# Altium footprint library O_JonF_DaveL.PcbLib: 331 footprints (part 16 of 21)
Each footprint in its own frame and in the unit in brackets; x right, y up, seen from the top. Pads: shape width x height; smd on the part's side, far side on the other; paste and mask are expansions set on the pad; w line width, h text height; cw(c..) or ccw(c..) is an arc to the next point about the centre after c.
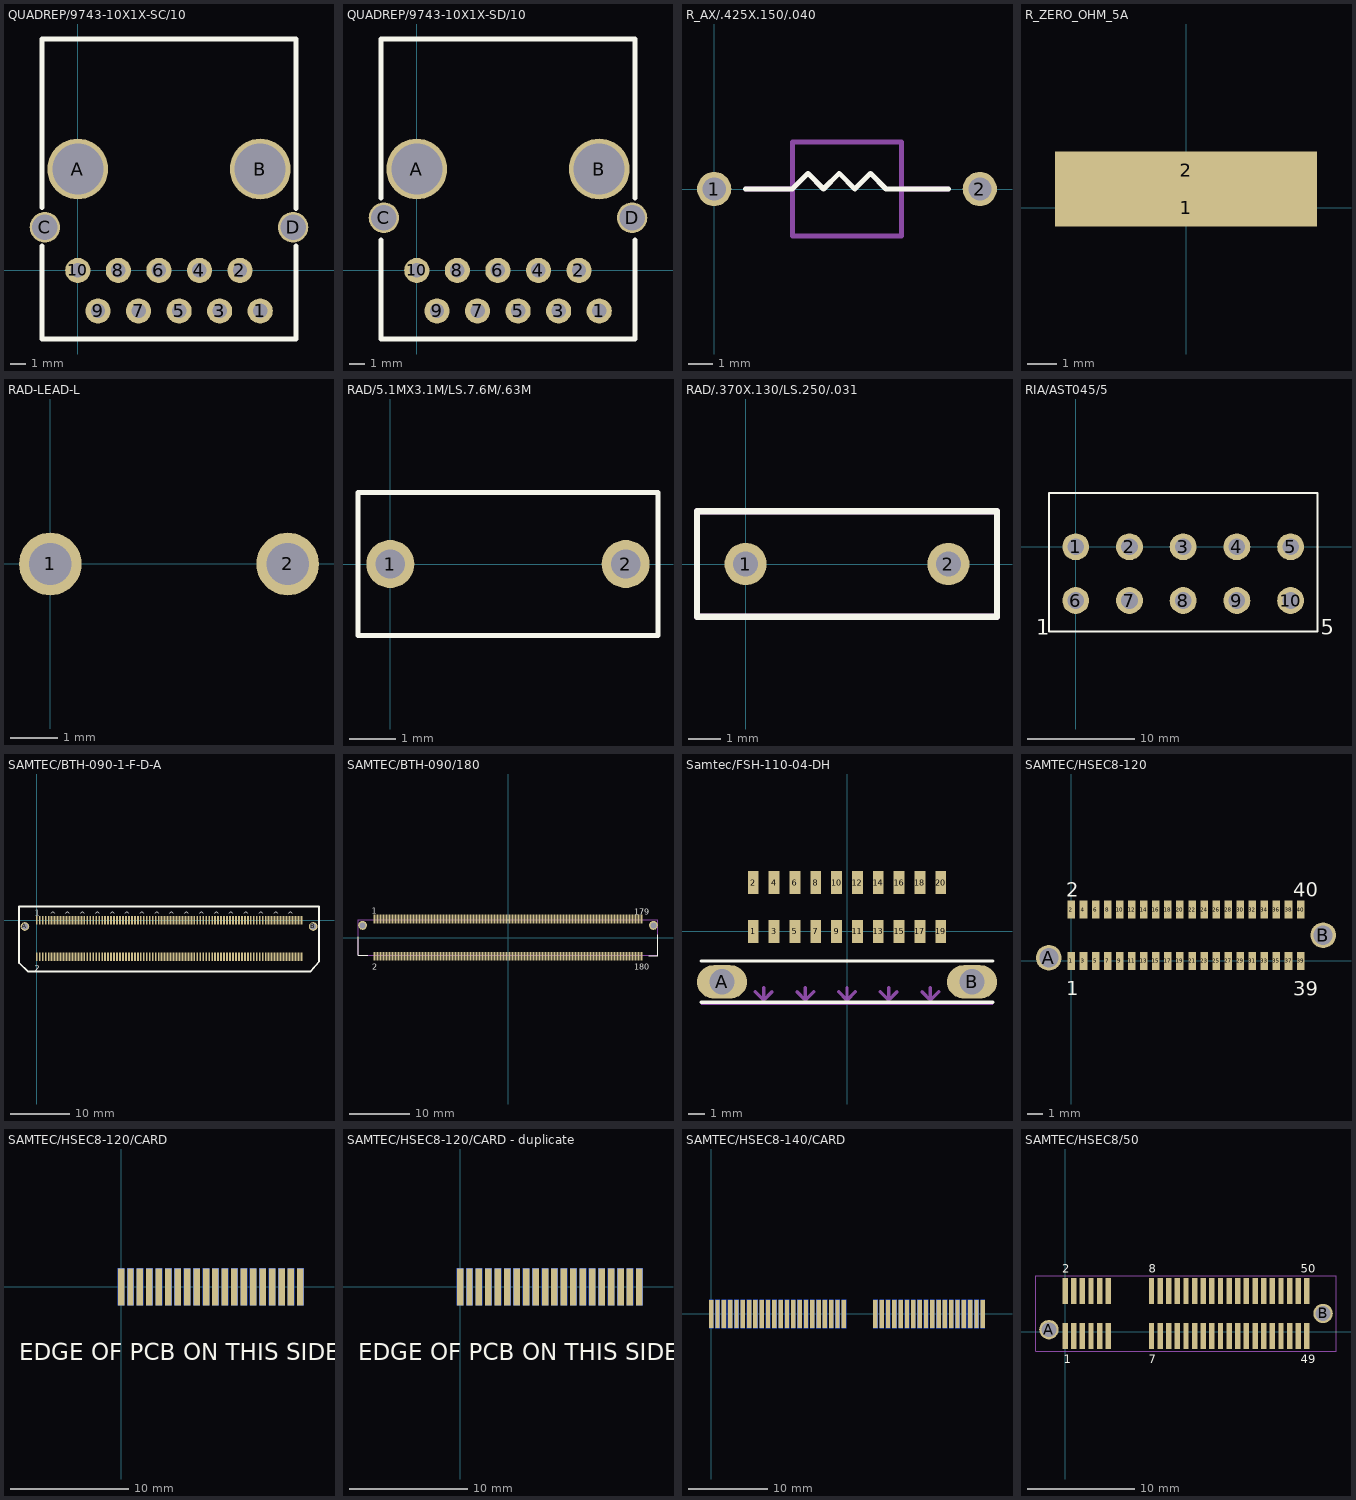
[diagram p15: the footprints below, top view; thin cyan lines are the x and y axes]

## QUADREP/9743-10X1X-SC/10 [mil]
pads (14):
  round 62 hole 35.43: 1(450,-100) 2(400,0) 3(350,-100) 4(300,0) 5(250,-100) 6(200,0) 7(150,-100) 8(100,0) 9(50,-100) 10(0,0)
  round 150 hole 125.98: A(0,250) B(450,250)
  round 75 hole 62.99: C(-81.1,106.3) D(531.1,106.3)
Top Overlay:
  lines w11.81: -88.03,154.84 -88.03,570.87 537.99,570.87 537.99,152.99 ; -87.99,59.84 -87.99,-169.29 537.99,-169.29 537.99,59.84
  text ".Designator" at -83.23,-248.25 h37.5
Mechanical 1:
  text ".Designator" at -81.5,-248.6 h37.5
  text ".Pattern" at -81.5,-440.55 h37.5
  text ".Comment" at -77.91,-314.37 h37.5

## QUADREP/9743-10X1X-SD/10 [mil]
pads (14):
  round 62 hole 35.43: 1(450,-100) 2(400,0) 3(350,-100) 4(300,0) 5(250,-100) 6(200,0) 7(150,-100) 8(100,0) 9(50,-100) 10(0,0)
  round 150 hole 125.98: A(0,250) B(450,250)
  round 75 hole 62.99: C(-81.1,129.92) D(531.1,129.92)
Top Overlay:
  lines w11.81: -87.99,74.92 -87.99,-169.29 537.99,-169.29 537.99,74.96 ; -87.99,178.7 -87.99,570.87 537.99,570.87 537.99,178.43
  text ".Designator" at -83.23,-248.25 h37.5
Mechanical 1:
  text ".Pattern" at -81.5,-440.55 h37.5
  text ".Comment" at -77.91,-314.37 h37.5
  text ".Designator" at -81.5,-248.6 h37.5

## R_AX/.425X.150/.040 [mil]
pads (2):
  round 55 hole 37: 1(0,0) 2(425,0)
Top Overlay:
  lines w8: 50,0 125,0 150,25 175,0 200,25 225,0 250,25 275,0 300,0 375,0
  text ".Designator" at 122.95,91.88 h37.5
Mechanical 1:
  lines w8: 50,0 125,0 ; 125,-75 300,-75 300,75 125,75 125,-73.4 ; 300,0 375,0
  text ".Comment" at 130.17,-68.73 h37.5
  text ".Pattern" at 72.73,-18.38 h22.5
  text ".Designator" at 147.95,16.88 h37.5

## R_ZERO_OHM_5A [mil]
pads (2):
  rect 350x50 smd: 1(0,0) 2(0,50)
Top Overlay:
  text ".Designator" at 0,337.5 h56.25
Mechanical 1:
  text ".Designator" at 0,337.5 h56.25
  text ".Comment" at 0,225 h56.25
  text ".Pattern" at 0,0 h56.25

## RAD-LEAD-L [mm]
pads (2):
  round 1.32 hole 0.889: 1(0,0) 2(5,0)
Top Overlay:
  text ".Designator" at -2,4.3 h1.5
Mechanical 1:
  text ".Pattern" at -4.2,-7.3 h1.5
  text ".Designator" at -2,4.3 h1.5

## RAD/5.1MX3.1M/LS.7.6M/.63M [mil]
pads (2):
  round 41 hole 25: 1(0,0) 2(200.79,0)
Top Overlay:
  lines w3.94: -27.56,-61.02 -27.56,61.02 228.35,61.02 228.35,-61.02 -27.56,-61.02
  text ".Designator" at 0,354.33 h59.06
Mechanical 1:
  text ".Designator" at 0,354.33 h59.06
  text ".Comment" at 0,236.22 h59.06
  text ".Pattern" at 0,0 h59.06

## RAD/.370X.130/LS.250/.031 [mil]
pads (2):
  round 52 hole 31: 1(0,0) 2(250,0)
Top Overlay:
  lines w8: -60,-65 -60,65 310,65 310,-65 -60,-65
  text ".Designator" at -64.05,74.38 h37.5
Mechanical 1:
  lines w8: -60,-65 310,-65 310,65 -60,65 -60,-65
  text ".Pattern" at -58.43,6.62 h37.5
  text ".Comment" at -53.33,-54.73 h37.5
  text ".Designator" at -64.05,74.38 h37.5

## RIA/AST045/5 [mm]
pads (10):
  round 2.5 hole 1.55: 1(0,0) 2(5,0) 3(10,0) 4(15,0) 5(20,0) 6(0,-5) 7(5,-5) 8(10,-5) 9(15,-5) 10(20,-5)
Top Overlay:
  lines w0.2: -2.5,-7.9 -2.5,5 22.5,5 22.5,-7.9 -2.5,-7.9
  text "5" at 22.8,-8.2 h1.43
  text "1" at -3.7,-8.2 h1.43
  text ".Designator" at -5.3,3.1 h1.5
Mechanical 1:
  text "OVERHANG AREA" at 0.6,5.3 h1.43
  text "WIRE INSERTS FROM THIS SIDE" at -9.1,-11 h1.43
  text ".Designator" at -9.6,20.4 h1.5
  text ".Comment" at -9.6,17.4 h1.5
  text ".Pattern" at -9.6,11.4 h1.5

## SAMTEC/BTH-090-1-F-D-A [mm]
pads (182):
  rect 0.305x1.448 smd: 1(0,0) 2(0,-6.172) 3(0.5,0) 4(0.5,-6.172) 5(1,0) 6(1,-6.172) 7(1.5,0) 8(1.5,-6.172) 9(2,0) 10(2,-6.172) 11(2.5,0) 12(2.5,-6.172) 13(3,0) 14(3,-6.172) 15(3.5,0) 16(3.5,-6.172) 17(4,0) 18(4,-6.172) 19(4.5,0) 20(4.5,-6.172) 21(5,0) 22(5,-6.172) 23(5.5,0) 24(5.5,-6.172) 25(6,0) 26(6,-6.172) 27(6.5,0) 28(6.5,-6.172) 29(7,0) 30(7,-6.172) 31(7.5,0) 32(7.5,-6.172) 33(8,0) 34(8,-6.172) 35(8.5,0) 36(8.5,-6.172) 37(9,0) 38(9,-6.172) 39(9.5,0) 40(9.5,-6.172) 41(10,0) 42(10,-6.172) 43(10.5,0) 44(10.5,-6.172) 45(11,0) 46(11,-6.172) 47(11.5,0) 48(11.5,-6.172) 49(12,0) 50(12,-6.172) 51(12.5,0) 52(12.5,-6.172) 53(13,0) 54(13,-6.172) 55(13.5,0) 56(13.5,-6.172) 57(14,0) 58(14,-6.172) 59(14.5,0) 60(14.5,-6.172) 61(15,0) 62(15,-6.172) 63(15.5,0) 64(15.5,-6.172) 65(16,0) 66(16,-6.172) 67(16.5,0) 68(16.5,-6.172) 69(17,0) 70(17,-6.172) 71(17.5,0) 72(17.5,-6.172) 73(18,0) 74(18,-6.172) 75(18.5,0) 76(18.5,-6.172) 77(19,0) 78(19,-6.172) 79(19.5,0) 80(19.5,-6.172) 81(20,0) 82(20,-6.172) 83(20.5,0) 84(20.5,-6.172) 85(21,0) 86(21,-6.172) 87(21.5,0) 88(21.5,-6.172) 89(22,0) 90(22,-6.172) 91(22.5,0) 92(22.5,-6.172) 93(23,0) 94(23,-6.172) 95(23.5,0) 96(23.5,-6.172) 97(24,0) 98(24,-6.172) 99(24.5,0) 100(24.5,-6.172) 101(25,0) 102(25,-6.172) 103(25.5,0) 104(25.5,-6.172) 105(26,0) 106(26,-6.172) 107(26.5,0) 108(26.5,-6.172) 109(27,0) 110(27,-6.172) 111(27.5,0) 112(27.5,-6.172) 113(28,0) 114(28,-6.172) 115(28.5,0) 116(28.5,-6.172) 117(29,0) 118(29,-6.172) 119(29.5,0) 120(29.5,-6.172) 121(30,0) 122(30,-6.172) 123(30.5,0) 124(30.5,-6.172) 125(31,0) 126(31,-6.172) 127(31.5,0) 128(31.5,-6.172) 129(32,0) 130(32,-6.172) 131(32.5,0) 132(32.5,-6.172) 133(33,0) 134(33,-6.172) 135(33.5,0) 136(33.5,-6.172) 137(34,0) 138(34,-6.172) 139(34.5,0) 140(34.5,-6.172) 141(35,0) 142(35,-6.172) 143(35.5,0) 144(35.5,-6.172) 145(36,0) 146(36,-6.172) 147(36.5,0) 148(36.5,-6.172) 149(37,0) 150(37,-6.172) 151(37.5,0) 152(37.5,-6.172) 153(38,0) 154(38,-6.172) 155(38.5,0) 156(38.5,-6.172) 157(39,0) 158(39,-6.172) 159(39.5,0) 160(39.5,-6.172) 161(40,0) 162(40,-6.172) 163(40.5,0) 164(40.5,-6.172) 165(41,0) 166(41,-6.172) 167(41.5,0) 168(41.5,-6.172) 169(42,0) 170(42,-6.172) 171(42.5,0) 172(42.5,-6.172) 173(43,0) 174(43,-6.172) 175(43.5,0) 176(43.5,-6.172) 177(44,0) 178(44,-6.172) 179(44.5,0) 180(44.5,-6.172)
  round 1.45 hole 1.016: A(-1.988,-1.054) B(46.488,-1.054)
Top Overlay:
  lines w0.3: -2.988,-7.178 -1.44,-8.642 46,-8.642 47.467,-7 47.467,2.323 -2.988,2.323 -2.988,-7.178
  text "1" at -0.345,0.757 h0.95
  text "^" at 2.15,0.4 h0.95
  text "^" at 4.65,0.4 h0.95
  text "^" at 7.15,0.4 h0.95
  text "^" at 9.65,0.4 h0.95
  text "^" at 12.15,0.4 h0.95
  text "^" at 14.65,0.4 h0.95
  text "^" at 17.15,0.4 h0.95
  text "^" at 19.65,0.4 h0.95
  text "^" at 22.15,0.4 h0.95
  text "^" at 24.65,0.4 h0.95
  text "^" at 27.15,0.4 h0.95
  text "^" at 29.65,0.4 h0.95
  text "^" at 32.15,0.4 h0.95
  text "^" at 34.65,0.4 h0.95
  text "^" at 37.15,0.4 h0.95
  text "^" at 39.65,0.4 h0.95
  text "^" at 42.15,0.4 h0.95
  text "2" at -0.333,-8.563 h0.95
  text ".Designator" at -2.795,-11.646 h1.5
Mechanical 1:
  text ".Pattern" at -2.796,-20.323 h1.5
  text ".Comment" at -2.795,-14.646 h1.5
  text ".Designator" at -2.795,-11.646 h1.5

## SAMTEC/BTH-090/180 [mil]
pads (182):
  rect 12x57 smd: 1(-876.2,121.5) 2(-876.2,-121.5) 3(-856.52,121.5) 4(-856.52,-121.5) 5(-836.82,121.5) 6(-836.82,-121.5) 7(-817.13,121.5) 8(-817.13,-121.5) 9(-797.43,121.5) 10(-797.43,-121.5) 11(-777.75,121.5) 12(-777.75,-121.5) 13(-758.07,121.5) 14(-758.07,-121.5) 15(-738.37,121.5) 16(-738.37,-121.5) 17(-718.68,121.5) 18(-718.68,-121.5) 19(-698.98,121.5) 20(-698.98,-121.5) 21(-679.3,121.5) 22(-679.3,-121.5) 23(-659.62,121.5) 24(-659.62,-121.5) 25(-639.92,121.5) 26(-639.92,-121.5) 27(-620.23,121.5) 28(-620.23,-121.5) 29(-600.53,121.5) 30(-600.53,-121.5) 31(-580.85,121.5) 32(-580.85,-121.5) 33(-561.17,121.5) 34(-561.17,-121.5) 35(-541.47,121.5) 36(-541.47,-121.5) 37(-521.78,121.5) 38(-521.78,-121.5) 39(-502.08,121.5) 40(-502.08,-121.5) 41(-482.4,121.5) 42(-482.4,-121.5) 43(-462.72,121.5) 44(-462.72,-121.5) 45(-443.03,121.5) 46(-443.03,-121.5) 47(-423.33,121.5) 48(-423.33,-121.5) 49(-403.63,121.5) 50(-403.63,-121.5) 51(-383.95,121.5) 52(-383.95,-121.5) 53(-364.27,121.5) 54(-364.27,-121.5) 55(-344.57,121.5) 56(-344.57,-121.5) 57(-324.88,121.5) 58(-324.88,-121.5) 59(-305.2,121.5) 60(-305.2,-121.5) 61(-285.5,121.5) 62(-285.5,-121.5) 63(-265.82,121.5) 64(-265.82,-121.5) 65(-246.12,121.5) 66(-246.12,-121.5) 67(-226.43,121.5) 68(-226.43,-121.5) 69(-206.73,121.5) 70(-206.73,-121.5) 71(-187.05,121.5) 72(-187.05,-121.5) 73(-167.37,121.5) 74(-167.37,-121.5) 75(-147.67,121.5) 76(-147.67,-121.5) 77(-127.98,121.5) 78(-127.98,-121.5) 79(-108.28,121.5) 80(-108.28,-121.5) 81(-88.6,121.5) 82(-88.6,-121.5) 83(-68.92,121.5) 84(-68.92,-121.5) 85(-49.2,121.5) 86(-49.2,-121.5) 87(-29.53,121.5) 88(-29.53,-121.5) 89(-9.83,121.5) 90(-9.83,-121.5) 91(9.85,121.5) 92(9.85,-121.5) 93(29.53,121.5) 94(29.53,-121.5) 95(49.23,121.5) 96(49.23,-121.5) 97(68.92,121.5) 98(68.92,-121.5) 99(88.62,121.5) 100(88.62,-121.5) 101(108.3,121.5) 102(108.3,-121.5) 103(128,121.5) 104(128,-121.5) 105(147.68,121.5) 106(147.68,-121.5) 107(167.37,121.5) 108(167.37,-121.5) 109(187.07,121.5) 110(187.07,-121.5) 111(206.75,121.5) 112(206.75,-121.5) 113(226.43,121.5) 114(226.43,-121.5) 115(246.13,121.5) 116(246.13,-121.5) 117(265.8,121.5) 118(265.8,-121.5) 119(285.52,121.5) 120(285.52,-121.5) 121(305.2,121.5) 122(305.2,-121.5) 123(324.88,121.5) 124(324.88,-121.5) 125(344.58,121.5) 126(344.58,-121.5) 127(364.27,121.5) 128(364.27,-121.5) 129(383.97,121.5) 130(383.97,-121.5) 131(403.65,121.5) 132(403.65,-121.5) 133(423.33,121.5) 134(423.33,-121.5) 135(443.03,121.5) 136(443.03,-121.5) 137(462.72,121.5) 138(462.72,-121.5) 139(482.42,121.5) 140(482.42,-121.5) 141(502.1,121.5) 142(502.1,-121.5) 143(521.8,121.5) 144(521.8,-121.5) 145(541.48,121.5) 146(541.48,-121.5) 147(561.17,121.5) 148(561.17,-121.5) 149(580.87,121.5) 150(580.87,-121.5) 151(600.55,121.5) 152(600.55,-121.5) 153(620.23,121.5) 154(620.23,-121.5) 155(639.93,121.5) 156(639.93,-121.5) 157(659.62,121.5) 158(659.62,-121.5) 159(679.32,121.5) 160(679.32,-121.5) 161(699,121.5) 162(699,-121.5) 163(718.68,121.5) 164(718.68,-121.5) 165(738.38,121.5) 166(738.38,-121.5) 167(758.07,121.5) 168(758.07,-121.5) 169(777.77,121.5) 170(777.77,-121.5) 171(797.45,121.5) 172(797.45,-121.5) 173(817.13,121.5) 174(817.13,-121.5) 175(836.83,121.5) 176(836.83,-121.5) 177(856.52,121.5) 178(856.52,-121.5) 179(876.22,121.5) 180(876.22,-121.5)
  round 58 / inner round 76 / far side round 58 hole 41: 181(-954.5,80) 182(954.5,80)
Top Overlay:
  lines w8: -984.5,4.9 -984.5,-117.5 -920.2,-117.5 ; 923.1,-117.6 984.4,-117.6 984.4,18.3
  text "180" at 830,-212 h37.5
  text "179" at 829,151 h37.5
  text "2" at -891,-212 h37.5
  text "1" at -893,156 h37.5
  text ".Designator" at -1013.9,237.7 h37.5
Mechanical 1:
  lines w8: -984.45,-117.5 -984.45,117.5 984.45,117.5 984.45,-117.5 -984.45,-117.5
  text "180" at 826,-93 h37.5
  text "179" at 825,22 h37.5
  text "2" at -893,-92 h37.5
  text "1" at -889,29 h37.5
  text ".Comment" at -979.8,-260.7 h37.5
  text ".Designator" at -82.2,-26 h37.5

## Samtec/FSH-110-04-DH [mil]
height 155
pads (22):
  rect 26x55 smd: 1(-225,0) 2(-225,117) 3(-175,0) 4(-175,117) 5(-125,0) 6(-125,117) 7(-75,0) 8(-75,117) 9(-25,0) 10(-25,117) 11(25,0) 12(25,117) 13(75,0) 14(75,117) 15(125,0) 16(125,117) 17(175,0) 18(175,117) 19(225,0) 20(225,117)
  oval 120x80 hole 61: A(-300,-121) B(300,-121)
Top Overlay:
  lines w8: -350,-170 350,-170 ; -350,-71 350,-71
Mechanical 1:
  lines w1: -350,-175 350,-175
  lines w8: -220,-145 -200,-165 ; -200,-135 -200,-165 ; -180,-145 -200,-165 ; -120,-145 -100,-165 ; -100,-135 -100,-165 ; -80,-145 -100,-165 ; -20,-145 0,-165 ; 0,-135 0,-165 ; 20,-145 0,-165 ; 80,-145 100,-165 ; 100,-135 100,-165 ; 120,-145 100,-165 ; 180,-145 200,-165 ; 200,-135 200,-165 ; 220,-145 200,-165
  text "This Line at Edge of Board" at -380,-115 h30

## SAMTEC/HSEC8-120 [mm]
pads (42):
  rect 0.5x1.2 smd: 1(0,0) 2(0,3.4) 3(0.8,0) 4(0.8,3.4) 5(1.6,0) 6(1.6,3.4) 7(2.4,0) 8(2.4,3.4) 9(3.2,0) 10(3.2,3.4) 11(4,0) 12(4,3.4) 13(4.8,0) 14(4.8,3.4) 15(5.6,0) 16(5.6,3.4) 17(6.4,0) 18(6.4,3.4) 19(7.2,0) 20(7.2,3.4) 21(8,0) 22(8,3.4) 23(8.8,0) 24(8.8,3.4) 25(9.6,0) 26(9.6,3.4) 27(10.4,0) 28(10.4,3.4) 29(11.2,0) 30(11.2,3.4) 31(12,0) 32(12,3.4) 33(12.8,0) 34(12.8,3.4) 35(13.6,0) 36(13.6,3.4) 37(14.4,0) 38(14.4,3.4) 39(15.2,0) 40(15.2,3.4)
  round 1.702 hole 1.27: A(-1.5,0.2) B(16.7,1.7)
Top Overlay:
  text ".Designator" at 18.082,3.778 h0.95
  text "1" at -0.341,-2.274 h0.95
  text "2" at -0.341,4.243 h0.95
  text "40" at 14.704,4.243 h0.95
  text "39" at 14.704,-2.302 h0.95
Mechanical 1:
  text ".Pattern" at 18.082,-0.422 h0.95
  text ".Comment" at 18.082,2.46 h0.95
  text ".Designator" at 18.194,3.778 h0.95

## SAMTEC/HSEC8-120/CARD [mil]
pads (40):
  rect 21.63x124 smd: 1(0,0) 3(31.48,0) 5(63,0) 7(94.48,0) 9(126,0) 11(157.47,0) 13(188.97,0) 15(220.47,0) 17(251.97,0) 19(283.45,0) 21(314.95,0) 23(346.45,0) 25(377.95,0) 27(409.43,0) 29(440.93,0) 31(472.43,0) 33(503.93,0) 35(535.42,0) 37(566.92,0) 39(598.42,0)
  rect 21.63x124 smd far side: 2(0,0) 4(31.48,0) 6(63,0) 8(94.48,0) 10(126,0) 12(157.47,0) 14(188.97,0) 16(220.47,0) 18(251.97,0) 20(283.45,0) 22(314.95,0) 24(346.45,0) 26(377.95,0) 28(409.43,0) 30(440.93,0) 32(472.43,0) 34(503.93,0) 36(535.42,0) 38(566.92,0) 40(598.42,0)
Top Overlay:
  text "EDGE OF PCB ON THIS SIDE" at -340.55,-245.07 h56.25
  text ".Designator" at 0,354.32 h59.05
Top Solder:
  region: 610.76,63.51 611.38,62 611.38,-62 610.76,-63.51 609.25,-64.13 -10.82,-64.13 -12.32,-63.51 -12.95,-62 -12.95,62 -12.32,63.51 -10.82,64.13 609.25,64.13
Bottom Solder:
  region: 610.76,63.51 611.38,62 611.38,-62 610.76,-63.51 609.25,-64.13 -10.82,-64.13 -12.32,-63.51 -12.95,-62 -12.95,62 -12.32,63.51 -10.82,64.13 609.25,64.13
Mechanical 1:
  text ".Designator" at 0,354.32 h59.05
  text ".Comment" at 0,236.22 h59.05
  text ".Pattern" at 0,0 h59.05

## SAMTEC/HSEC8-120/CARD - duplicate [mm]
pads (40):
  rect 0.55x3.15 smd: 1(0,0) 3(0.8,0) 5(1.6,0) 7(2.4,0) 9(3.2,0) 11(4,0) 13(4.8,0) 15(5.6,0) 17(6.4,0) 19(7.2,0) 21(8,0) 23(8.8,0) 25(9.6,0) 27(10.4,0) 29(11.2,0) 31(12,0) 33(12.8,0) 35(13.6,0) 37(14.4,0) 39(15.2,0)
  rect 0.55x3.15 smd far side: 2(0,0) 4(0.8,0) 6(1.6,0) 8(2.4,0) 10(3.2,0) 12(4,0) 14(4.8,0) 16(5.6,0) 18(6.4,0) 20(7.2,0) 22(8,0) 24(8.8,0) 26(9.6,0) 28(10.4,0) 30(11.2,0) 32(12,0) 34(12.8,0) 36(13.6,0) 38(14.4,0) 40(15.2,0)
Top Overlay:
  text ".Designator" at 0,9 h1.5
  text "EDGE OF PCB ON THIS SIDE" at -8.65,-6.225 h1.43
Top Solder:
  region: 15.513,1.613 15.529,1.575 15.529,-1.575 15.513,-1.613 15.475,-1.629 -0.275,-1.629 -0.313,-1.613 -0.329,-1.575 -0.329,1.575 -0.313,1.613 -0.275,1.629 15.475,1.629
Bottom Solder:
  region: 15.513,1.613 15.529,1.575 15.529,-1.575 15.513,-1.613 15.475,-1.629 -0.275,-1.629 -0.313,-1.613 -0.329,-1.575 -0.329,1.575 -0.313,1.613 -0.275,1.629 15.475,1.629
Mechanical 1:
  text ".Pattern" at 0,0 h1.5
  text ".Comment" at 0,6 h1.5
  text ".Designator" at 0,9 h1.5

## SAMTEC/HSEC8-140/CARD [mm]
pads (80):
  rect 0.55x3.6 smd far side: 1(0,0) 3(0.8,0) 5(1.6,0) 7(2.4,0) 9(3.2,0) 11(4,0) 13(4.8,0) 15(5.6,0) 17(6.4,0) 19(7.2,0) 21(8,0) 23(8.8,0) 25(9.6,0) 27(10.4,0) 29(11.2,0) 31(12,0) 33(12.8,0) 35(13.6,0) 37(14.4,0) 39(15.2,0) 41(16,0) 43(16.8,0) 45(20.8,0) 47(21.6,0) 49(22.4,0) 51(23.2,0) 53(24,0) 55(24.8,0) 57(25.6,0) 59(26.4,0) 61(27.2,0) 63(28,0) 65(28.8,0) 67(29.6,0) 69(30.4,0) 71(31.2,0) 73(32,0) 75(32.8,0) 77(33.6,0) 79(34.4,0)
  rect 0.55x3.6 smd: 2(0,0) 4(0.8,0) 6(1.6,0) 8(2.4,0) 10(3.2,0) 12(4,0) 14(4.8,0) 16(5.6,0) 18(6.4,0) 20(7.2,0) 22(8,0) 24(8.8,0) 26(9.6,0) 28(10.4,0) 30(11.2,0) 32(12,0) 34(12.8,0) 36(13.6,0) 38(14.4,0) 40(15.2,0) 42(16,0) 44(16.8,0) 46(20.8,0) 48(21.6,0) 50(22.4,0) 52(23.2,0) 54(24,0) 56(24.8,0) 58(25.6,0) 60(26.4,0) 62(27.2,0) 64(28,0) 66(28.8,0) 68(29.6,0) 70(30.4,0) 72(31.2,0) 74(32,0) 76(32.8,0) 78(33.6,0) 80(34.4,0)
Top Overlay:
  text ".Designator" at 34.775,-2.285 h1.5
Top Solder:
  region: 35.507,1.877 35.538,1.8 35.538,-1.805 35.507,-1.882 35.43,-1.913 -1.03,-1.913 -1.107,-1.882 -1.138,-1.805 -1.138,1.8 -1.107,1.877 -1.03,1.908 35.43,1.908
Bottom Solder:
  region: 35.507,1.877 35.538,1.8 35.538,-1.805 35.507,-1.882 35.43,-1.913 -1.03,-1.913 -1.107,-1.882 -1.138,-1.805 -1.138,1.8 -1.107,1.877 -1.03,1.908 35.43,1.908
Mechanical 1:
  text "EDGE OF PCB THIS SIDE" at -0.11,12.325 h1.43

## SAMTEC/HSEC8/50 [mil]
height 1
pads (52):
  rect 19.67x94.47 smd mask+7.87: 1(0,-15.73) 2(0,149.6) 3(31.48,-15.73) 4(31.48,149.6) 5(63,-15.73) 6(63,149.6) 7(94.48,-15.73) 8(94.48,149.6) 9(126,-15.73) 10(126,149.6) 11(157.47,-15.73) 12(157.47,149.6) 13(314.95,-15.73) 14(314.95,149.6) 15(346.45,-15.73) 16(346.45,149.6) 17(377.95,-15.73) 18(377.95,149.6) 19(409.43,-15.73) 20(409.43,149.6) 21(440.93,-15.73) 22(440.93,149.6) 23(472.43,-15.73) 24(472.43,149.6) 25(503.93,-15.73) 26(503.93,149.6) 27(535.42,-15.73) 28(535.42,149.6) 29(566.92,-15.73) 30(566.92,149.6) 31(598.42,-15.73) 32(598.42,149.6) 33(629.92,-15.73) 34(629.92,149.6) 35(661.42,-15.73) 36(661.42,149.6) 37(692.9,-15.73) 38(692.9,149.6) 39(724.4,-15.73) 40(724.4,149.6) 41(755.9,-15.73) 42(755.9,149.6) 43(787.4,-15.73) 44(787.4,149.6) 45(818.88,-15.73) 46(818.88,149.6) 47(850.38,-15.73) 48(850.38,149.6) 49(881.88,-15.73) 50(881.88,149.6)
  round 70.83 hole 53.5 mask+7.9: A(-59.05,7.87) B(940.93,66.92)
Top Overlay:
  text "1" at -5,-115 h30
  text "2" at -10,215 h30
  text "7" at 305,-115 h30
  text "8" at 305,215 h30
  text "50" at 860,215 h30
  text "49" at 860,-115 h30
Mechanical 1:
  lines w1: -106.28,-70.85 -106.28,204.72 988.18,204.72 988.18,-70.85 -106.28,-70.85